# EAGLE library part SOCKET-40 (library con-3m-skt-header)
40 pin PCB Socket (3m 85xx/51xx)
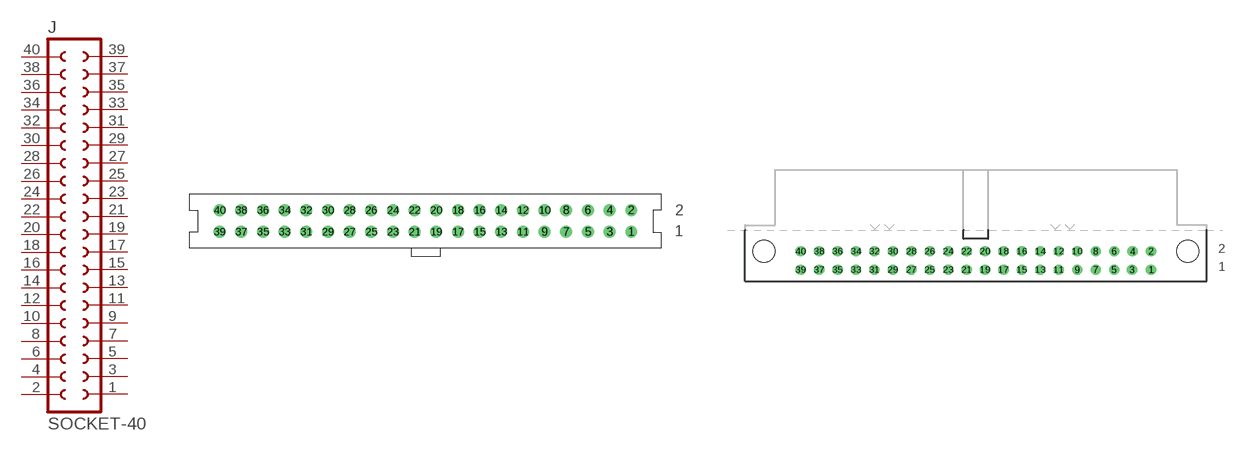
[diagram p6: symbol with the pads of S40V; footprints S40V, S40RA]

Designator prefix J

## SOCKET-40V  [S40V]
1  1  pas
2  2  pas
3  3  pas
4  4  pas
5  5  pas
6  6  pas
7  7  pas
8  8  pas
9  9  pas
10  10  pas
11  11  pas
12  12  pas
13  13  pas
14  14  pas
15  15  pas
16  16  pas
17  17  pas
18  18  pas
19  19  pas
20  20  pas
21  21  pas
22  22  pas
23  23  pas
24  24  pas
25  25  pas
26  26  pas
27  27  pas
28  28  pas
29  29  pas
30  30  pas
31  31  pas
32  32  pas
33  33  pas
34  34  pas
35  35  pas
36  36  pas
37  37  pas
38  38  pas
39  39  pas
40  40  pas

## SOCKET-40RA  [S40RA]
Pads as for S40V

## Footprint S40V (pad centres in mm)
40 pin Vertical PCB Socket 8540-xxxxx
drill 0.8 pad 1.4 round: 1 24.13,-1.27; 2 24.13,1.27; 3 21.59,-1.27; 4 21.59,1.27; 5 19.05,-1.27; 6 19.05,1.27; 7 16.51,-1.27; 8 16.51,1.27; 9 13.97,-1.27; 10 13.97,1.27; 11 11.43,-1.27; 12 11.43,1.27; 13 8.89,-1.27; 14 8.89,1.27; 15 6.35,-1.27; 16 6.35,1.27; 17 3.81,-1.27; 18 3.81,1.27; 19 1.27,-1.27; 20 1.27,1.27; 21 -1.27,-1.27; 22 -1.27,1.27; 23 -3.81,-1.27; 24 -3.81,1.27; 25 -6.35,-1.27; 26 -6.35,1.27; 27 -8.89,-1.27; 28 -8.89,1.27; 29 -11.43,-1.27; 30 -11.43,1.27; 31 -13.97,-1.27; 32 -13.97,1.27; 33 -16.51,-1.27; 34 -16.51,1.27; 35 -19.05,-1.27; 36 -19.05,1.27; 37 -21.59,-1.27; 38 -21.59,1.27; 39 -24.13,-1.27; 40 -24.13,1.27

## Footprint S40RA (pad centres in mm)
40 pin R/A PCB socket 3M 5140-xxxxx
drill 0.8 pad 1.4 round: 1 24.13,-5.44; 2 24.13,-2.9; 3 21.51,-5.44; 4 21.59,-2.9; 5 19.05,-5.44; 6 19.05,-2.9; 7 16.51,-5.44; 8 16.51,-2.9; 9 13.97,-5.44; 10 13.97,-2.9; 11 11.43,-5.44; 12 11.43,-2.9; 13 8.89,-5.44; 14 8.89,-2.9; 15 6.35,-5.44; 16 6.35,-2.9; 17 3.81,-5.44; 18 3.81,-2.9; 19 1.27,-5.44; 20 1.27,-2.9; 21 -1.27,-5.44; 22 -1.27,-2.9; 23 -3.81,-5.44; 24 -3.81,-2.9; 25 -6.35,-5.44; 26 -6.35,-2.9; 27 -8.89,-5.44; 28 -8.89,-2.9; 29 -11.43,-5.44; 30 -11.43,-2.9; 31 -13.97,-5.44; 32 -13.97,-2.9; 33 -16.51,-5.44; 34 -16.51,-2.9; 35 -19.05,-5.44; 36 -19.05,-2.9; 37 -21.59,-5.44; 38 -21.59,-2.9; 39 -24.13,-5.44; 40 -24.13,-2.9
hole 3 at -29.2,-2.9
hole 3 at 29.2,-2.9